# EAGLE library part PH2X4 (library moteus_n1)
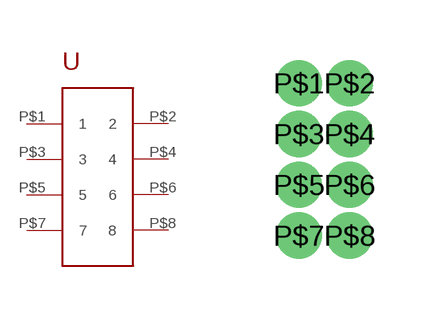
[diagram p9: symbol with the pads of PH2X4; footprint PH2X4]

Designator prefix -

## PH2X4  [PH2X4]
P$1  1
P$2  2
P$3  3
P$4  4
P$5  5
P$6  6
P$7  7
P$8  8

## Footprint PH2X4 (pad centres in mm)
drill 0.65 pad 1.016: P$1 0,0; P$2 1.27,0; P$3 0,-1.27; P$4 1.27,-1.27; P$5 0,-2.54; P$6 1.27,-2.54; P$7 0,-3.81; P$8 1.27,-3.81